# Altium schematic symbol library AMP_MINI_CT_10PIN.SchLib: 1 symbol
Pins are listed as number, name and electrical type; pins without a type are passive.

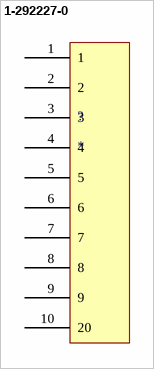
[diagram p0: symbol 1-292227-0]

## 1-292227-0
designator ?
1.5 MINI CT SGL H SMT W BOSS 1
pins: 1, 2, 3, 4, 5, 6, 7, 8, 9, 10 20